# EAGLE library part BMG250 (library custom_parts)
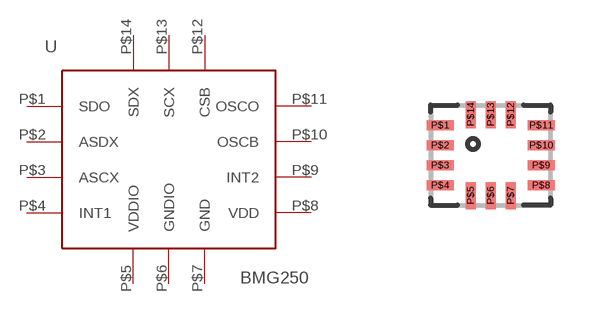
[diagram p1: symbol with the pads of BMG250; footprint BMG250]

Designator prefix -

## BMG250  [BMG250]
P$1  SDO
P$2  ASDX
P$3  ASCX
P$4  INT1
P$5  VDDIO
P$6  GNDIO
P$7  GND
P$8  VDD
P$9  INT2
P$10  OSCB
P$11  OSCO
P$12  CSB
P$13  SCX
P$14  SDX

## Footprint BMG250 (pad centres in mm)
smd 0.675 x 0.25: P$1 -1.262,0.75; P$2 -1.262,0.25; P$3 -1.262,-0.25; P$4 -1.262,-0.75; P$8 1.262,-0.75; P$9 1.262,-0.25; P$10 1.262,0.25; P$11 1.262,0.75
smd 0.25 x 0.675: P$5 -0.5,-1.012; P$6 0,-1.012; P$7 0.5,-1.012; P$12 0.5,1.012; P$13 0,1.012; P$14 -0.5,1.012